# EAGLE library part POCKETBEAGLE_?_2 (library e14_BeagleBoard_PocketBeagle_v1_alpha1)
BeagleBoard.org PocketBeagle What is PocketBeagle? PocketBeagle is an ultra-tiny-yet-complete open-source USB-key-fob computer. PocketBeagle features an incredible low cost, slick design and simple usage, making PocketBeagle the ideal development board for beginners and professionals alike. Processor: Octavo Systems OSD3358 1GHz ARMÂ® Cortex-A8 512MB DDR3 RAM integrated Integrated power management 2Ã—32-bit 200-MHz programmable real-time units (PRUs) ARM Cortex-M3 Summary of Key Features Low cost Linux computer with tremendous expansibility Opportunity to learn many programming aspects from educators on-line Openness and flexibility tear-down limits on your imagination Summary of Technical Specifications Based on new Octavo Systems OSD3358-SM 21mm x 21mm system-in-package that includes 512MB DDR3 RAM, 1-GHz ARM Cortex-A8 CPU, 2x 200-MHz PRUs, ARM Cortex-M3, 3D accelerator, power/battery management and EEPROM 72 expansion pin headers with power and battery I/Os, high-speed USB, 8 analog inputs, 44 digital I/Os and numerous digital interface peripherals microUSB host/client and microSD connectors
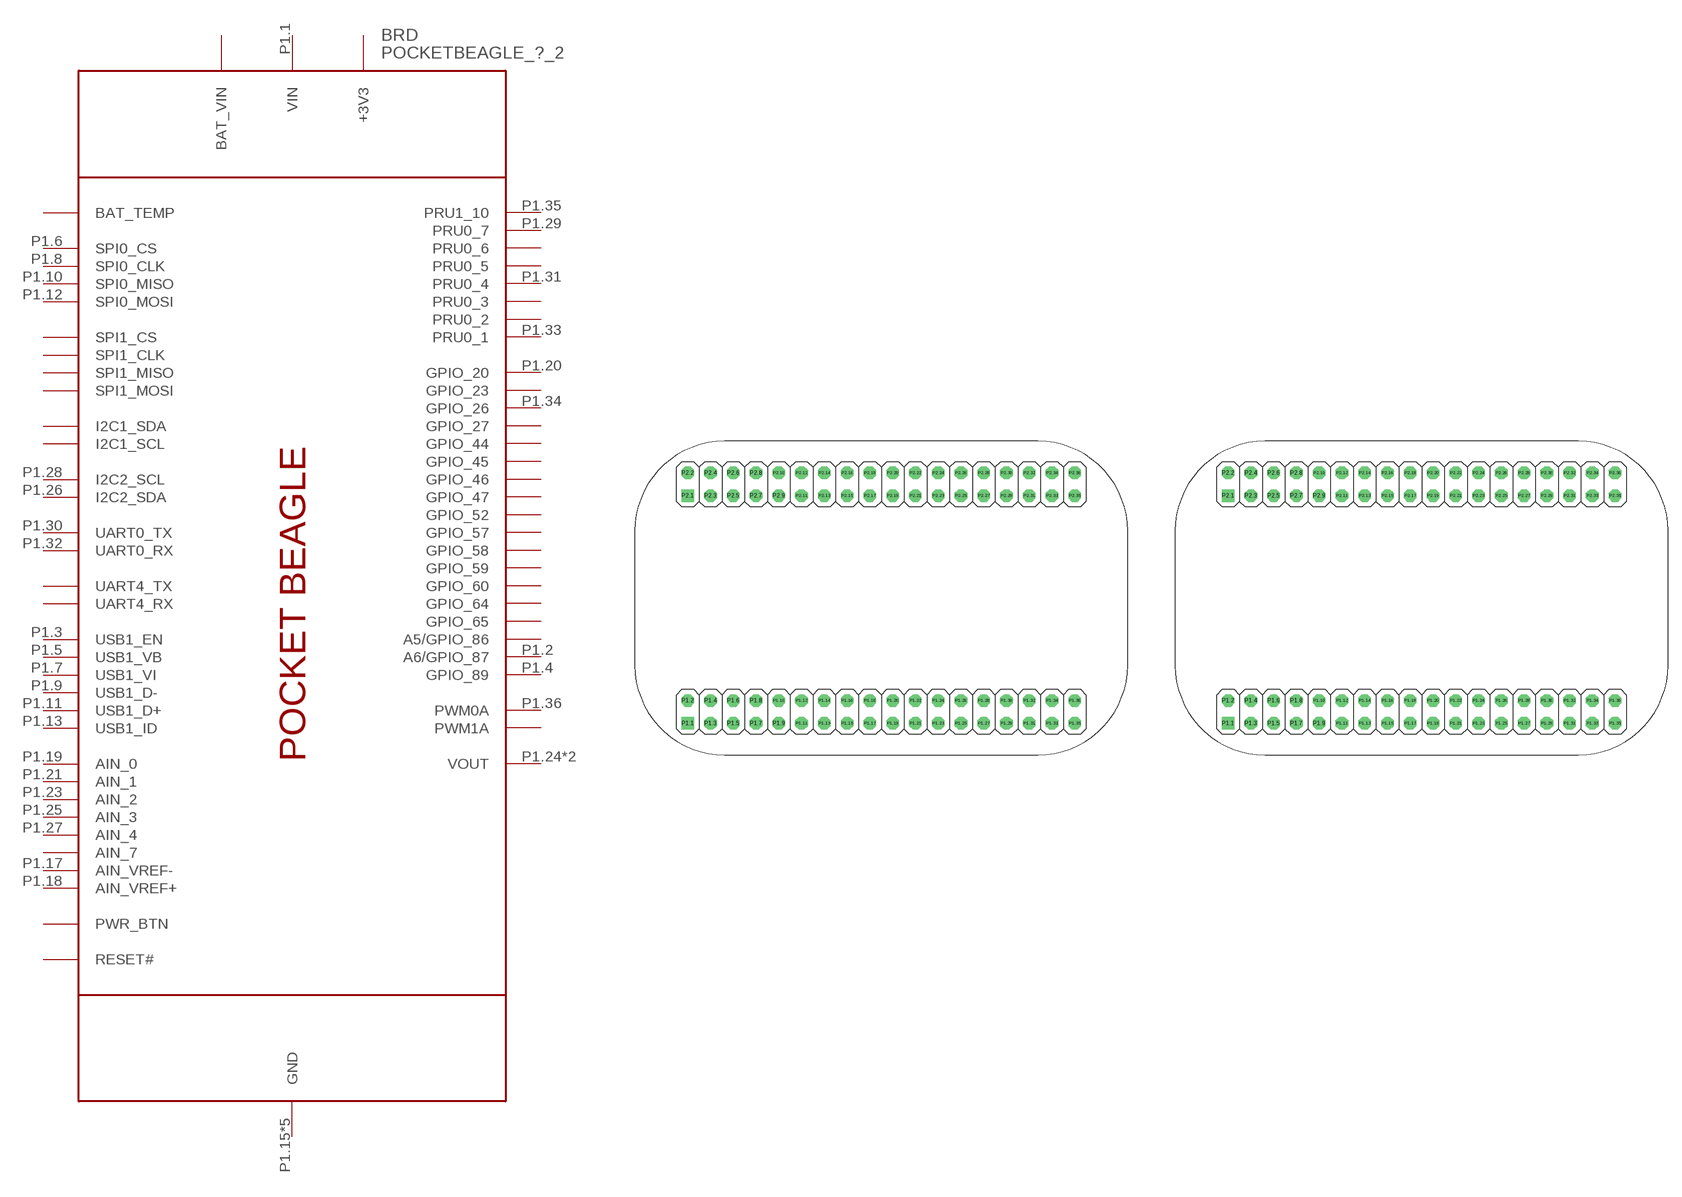
[diagram p0: symbol with the pads of POCKETBEAGLE_BRD; footprints POCKETBEAGLE_BRD, POCKETBEAGLE_CMP]

Designator prefix BRD

## POCKETBEAGLE_BRD_2  [POCKETBEAGLE_BRD]
P1.1  VIN
P1.2  A6/GPIO_87
P1.3  USB1_EN
P1.4  GPIO_89
P1.5  USB1_VB
P1.6  SPI0_CS
P1.7  USB1_VI
P1.8  SPI0_CLK
P1.9  USB1_D-
P1.10  SPI0_MISO
P1.11  USB1_D+
P1.12  SPI0_MOSI
P1.13  USB1_ID
P1.14  +3V3
P1.15  GND
P1.16  GND
P1.17  AIN_VREF-
P1.18  AIN_VREF+
P1.19  AIN_0
P1.20  GPIO_20
P1.21  AIN_1
P1.22  GND
P1.23  AIN_2
P1.24  VOUT
P1.25  AIN_3
P1.26  I2C2_SDA
P1.27  AIN_4
P1.28  I2C2_SCL
P1.29  PRU0_7
P1.30  UART0_TX
P1.31  PRU0_4
P1.32  UART0_RX
P1.33  PRU0_1
P1.34  GPIO_26
P1.35  PRU1_10
P1.36  PWM0A
P2.1  PWM1A
P2.2  GPIO_59
P2.3  GPIO_23
P2.4  GPIO_58
P2.5  UART4_RX
P2.6  GPIO_57
P2.7  UART4_TX
P2.8  GPIO_60
P2.9  I2C1_SCL
P2.10  GPIO_52
P2.11  I2C1_SDA
P2.12  PWR_BTN
P2.13  VOUT
P2.14  BAT_VIN
P2.15  GND
P2.16  BAT_TEMP
P2.17  GPIO_65
P2.18  GPIO_47
P2.19  GPIO_27
P2.20  GPIO_64
P2.21  GND
P2.22  GPIO_46
P2.23  +3V3
P2.24  GPIO_44
P2.25  SPI1_MOSI
P2.26  RESET#
P2.27  SPI1_MISO
P2.28  PRU0_6
P2.29  SPI1_CLK
P2.30  PRU0_3
P2.31  SPI1_CS
P2.32  PRU0_2
P2.33  GPIO_45
P2.34  PRU0_5
P2.35  A5/GPIO_86
P2.36  AIN_7

## POCKETBEAGLE_CMP_2  [POCKETBEAGLE_CMP]
Pads as for POCKETBEAGLE_BRD

## Footprint POCKETBEAGLE_BRD (pad centres in mm)
Package to be used when creating a new board based on the PocketBeagle form factor.
drill 0.9 square: P1.1 5.91,3.53; P2.1 5.91,28.93
drill 0.9 octagon: P1.2 5.91,6.07; P1.3 8.45,3.53; P1.4 8.45,6.07; P1.5 10.99,3.53; P1.6 10.99,6.07; P1.7 13.53,3.53; P1.8 13.53,6.07; P1.9 16.07,3.53; P1.10 16.07,6.07; P1.11 18.61,3.53; P1.12 18.61,6.07; P1.13 21.15,3.53; P1.14 21.15,6.07; P1.15 23.69,3.53; P1.16 23.69,6.07; P1.17 26.23,3.53; P1.18 26.23,6.07; P1.19 28.77,3.53; P1.20 28.77,6.07; P1.21 31.31,3.53; P1.22 31.31,6.07; P1.23 33.85,3.53; P1.24 33.85,6.07; P1.25 36.39,3.53; P1.26 36.39,6.07; P1.27 38.93,3.53; P1.28 38.93,6.07; P1.29 41.47,3.53; P1.30 41.47,6.07; P1.31 44.01,3.53; P1.32 44.01,6.07; P1.33 46.55,3.53; P1.34 46.55,6.07; P1.35 49.09,3.53; P1.36 49.09,6.07; P2.2 5.91,31.47; P2.3 8.45,28.93; P2.4 8.45,31.47; P2.5 10.99,28.93; P2.6 10.99,31.47; P2.7 13.53,28.93; P2.8 13.53,31.47; P2.9 16.07,28.93; P2.10 16.07,31.47; P2.11 18.61,28.93; P2.12 18.61,31.47; P2.13 21.15,28.93; P2.14 21.15,31.47; P2.15 23.69,28.93; P2.16 23.69,31.47; P2.17 26.23,28.93; P2.18 26.23,31.47; P2.19 28.77,28.93; P2.20 28.77,31.47; P2.21 31.31,28.93; P2.22 31.31,31.47; P2.23 33.85,28.93; P2.24 33.85,31.47; P2.25 36.39,28.93; P2.26 36.39,31.47; P2.27 38.93,28.93; P2.28 38.93,31.47; P2.29 41.47,28.93; P2.30 41.47,31.47; P2.31 44.01,28.93; P2.32 44.01,31.47; P2.33 46.55,28.93; P2.34 46.55,31.47; P2.35 49.09,28.93; P2.36 49.09,31.47

## Footprint POCKETBEAGLE_CMP (pad centres in mm)
Package to be used when using a PocketBeagle as a component to be plugged into another board.
drill 0.9 square: P1.1 -21.59,-13.97; P2.1 -21.59,11.43
drill 0.9 octagon: P1.2 -21.59,-11.43; P1.3 -19.05,-13.97; P1.4 -19.05,-11.43; P1.5 -16.51,-13.97; P1.6 -16.51,-11.43; P1.7 -13.97,-13.97; P1.8 -13.97,-11.43; P1.9 -11.43,-13.97; P1.10 -11.43,-11.43; P1.11 -8.89,-13.97; P1.12 -8.89,-11.43; P1.13 -6.35,-13.97; P1.14 -6.35,-11.43; P1.15 -3.81,-13.97; P1.16 -3.81,-11.43; P1.17 -1.27,-13.97; P1.18 -1.27,-11.43; P1.19 1.27,-13.97; P1.20 1.27,-11.43; P1.21 3.81,-13.97; P1.22 3.81,-11.43; P1.23 6.35,-13.97; P1.24 6.35,-11.43; P1.25 8.89,-13.97; P1.26 8.89,-11.43; P1.27 11.43,-13.97; P1.28 11.43,-11.43; P1.29 13.97,-13.97; P1.30 13.97,-11.43; P1.31 16.51,-13.97; P1.32 16.51,-11.43; P1.33 19.05,-13.97; P1.34 19.05,-11.43; P1.35 21.59,-13.97; P1.36 21.59,-11.43; P2.2 -21.59,13.97; P2.3 -19.05,11.43; P2.4 -19.05,13.97; P2.5 -16.51,11.43; P2.6 -16.51,13.97; P2.7 -13.97,11.43; P2.8 -13.97,13.97; P2.9 -11.43,11.43; P2.10 -11.43,13.97; P2.11 -8.89,11.43; P2.12 -8.89,13.97; P2.13 -6.35,11.43; P2.14 -6.35,13.97; P2.15 -3.81,11.43; P2.16 -3.81,13.97; P2.17 -1.27,11.43; P2.18 -1.27,13.97; P2.19 1.27,11.43; P2.20 1.27,13.97; P2.21 3.81,11.43; P2.22 3.81,13.97; P2.23 6.35,11.43; P2.24 6.35,13.97; P2.25 8.89,11.43; P2.26 8.89,13.97; P2.27 11.43,11.43; P2.28 11.43,13.97; P2.29 13.97,11.43; P2.30 13.97,13.97; P2.31 16.51,11.43; P2.32 16.51,13.97; P2.33 19.05,11.43; P2.34 19.05,13.97; P2.35 21.59,11.43; P2.36 21.59,13.97